# EAGLE library part ESP-WROOM-32-TINY-BLOCK (library esp32)
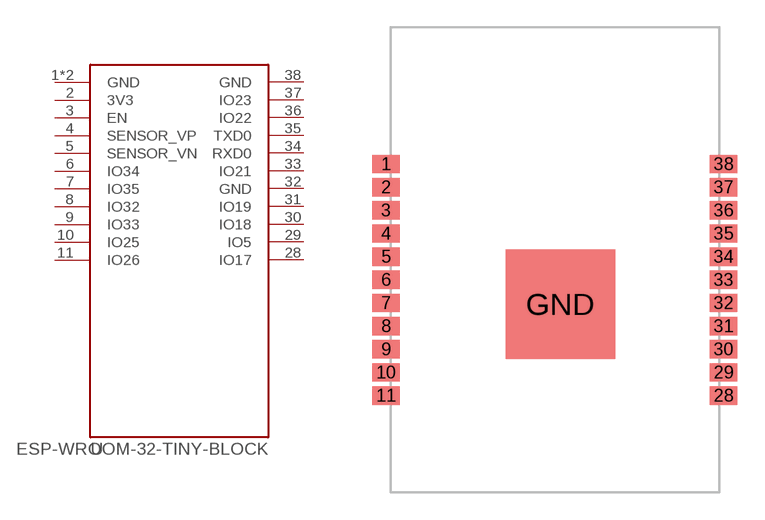
[diagram p3: symbol with the pads of ESP-WROOM-32-TINY-BLOCK; footprint ESP-WROOM-32-TINY-BLOCK]

Designator prefix -

## ESP-WROOM-32-TINY-BLOCK  [ESP-WROOM-32-TINY-BLOCK]
1  GND  pwr
2  3V3  pwr
3  EN  in
4  SENSOR_VP
5  SENSOR_VN
6  IO34
7  IO35
8  IO32
9  IO33
10  IO25
11  IO26
28  IO17
29  IO5
30  IO18
31  IO19
32  GND  pwr
33  IO21
34  RXD0
35  TXD0
36  IO22
37  IO23
38  GND  pwr
GND  GND  pwr

## Footprint ESP-WROOM-32-TINY-BLOCK (pad centres in mm)
smd 1.5 x 1: 1 -9.25,8.27; 2 -9.25,7; 3 -9.25,5.73; 4 -9.25,4.46; 5 -9.25,3.19; 6 -9.25,1.92; 7 -9.25,0.65; 8 -9.25,-0.62; 9 -9.25,-1.89; 10 -9.25,-3.16; 11 -9.25,-4.43; 28 9.25,-4.43; 29 9.25,-3.16; 30 9.25,-1.89; 31 9.25,-0.62; 32 9.25,0.65; 33 9.25,1.92; 34 9.25,3.19; 35 9.25,4.46; 36 9.25,5.73; 37 9.25,7; 38 9.25,8.27
smd 6 x 6: GND 0.3,0.57